# EAGLE library part EVQP7/P3/9P7 (library PanasonicSwitches)
SMT Side Activated push button SPST There are three styles - and I hope that this device footprint can handle all three, as they are fairly similar... But It is designed primarily for the type with plated through holes in the smt pad
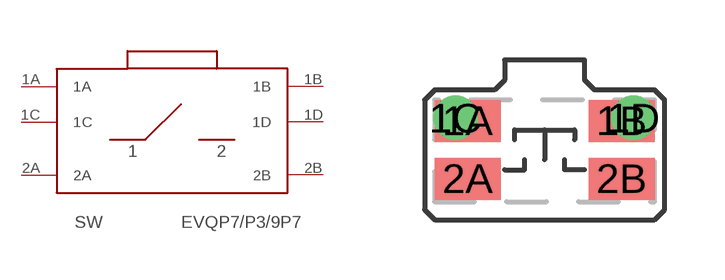
[diagram p0: symbol with the pads of SMT5.5MMX2.5MM; footprint SMT5.5MMX2.5MM]

Designator prefix SW

## EVQP7/P3/9P7  [SMT5.5MMX2.5MM]
1A  1A
1B  1B
1C  1C
1D  1D
2A  2A
2B  2B

## Footprint SMT5.5MMX2.5MM (pad centres in mm)
Should work with all three SMT versions of the button
smd 1.65 x 1.05: 1A -1.915,0.725; 1B 1.935,0.725; 2A -1.915,-0.725; 2B 1.935,-0.725
drill 0.6 pad 0.85: 1C -2.215,0.8; 1D 2.235,0.8